# Altium footprint library SSOP-28_L10.2-W5.3-P0.65-LS7.8-BL.PcbLib: 1 footprints
Each footprint in its own frame and in the unit in brackets; x right, y up, seen from the top. Pads: shape width x height; smd on the part's side, far side on the other; paste and mask are expansions set on the pad; w line width, h text height; cw(c..) or ccw(c..) is an arc to the next point about the centre after c.
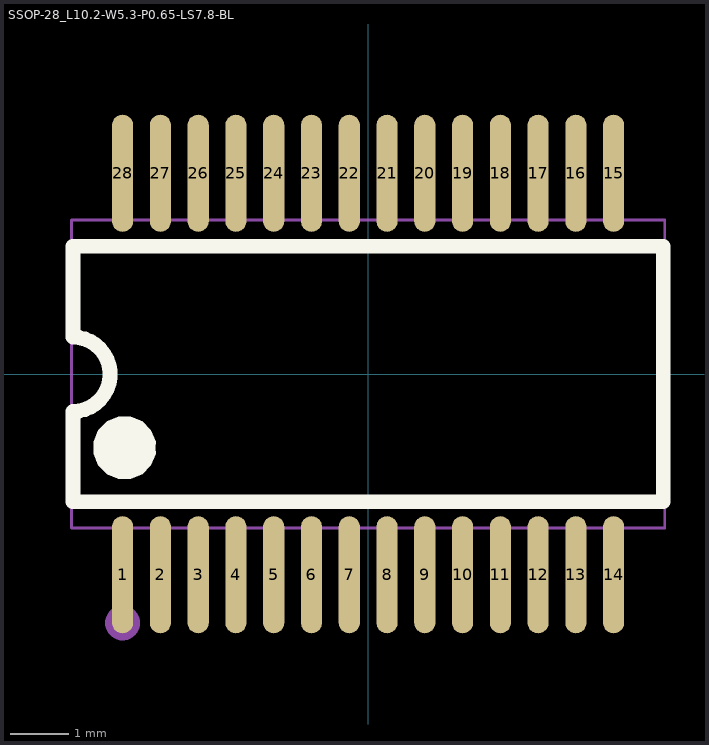
[diagram p0: the footprint, top view; thin cyan lines are the x and y axes]

## SSOP-28_L10.2-W5.3-P0.65-LS7.8-BL [mm]
pads (28):
  oval 0.364x2.015 smd: 1(-4.225,-3.455) 2(-3.575,-3.455) 3(-2.925,-3.455) 4(-2.275,-3.455) 5(-1.625,-3.455) 6(-0.975,-3.455) 7(-0.325,-3.455) 8(0.325,-3.455) 9(0.975,-3.455) 10(1.625,-3.455) 11(2.275,-3.455) 12(2.925,-3.455) 13(3.575,-3.455) 14(4.225,-3.455) 15(4.225,3.455) 16(3.575,3.455) 17(2.925,3.455) 18(2.275,3.455) 19(1.625,3.455) 20(0.975,3.455) 21(0.325,3.455) 22(-0.325,3.455) 23(-0.975,3.455) 24(-1.625,3.455) 25(-2.275,3.455) 26(-2.925,3.455) 27(-3.575,3.455) 28(-4.225,3.455)
Top Overlay:
  region: -4.722,-1.27 -4.723,-1.164 -4.643,-0.967 -4.493,-0.817 -4.297,-0.735 -4.085,-0.735 -3.889,-0.817 -3.739,-0.967 -3.659,-1.164 -3.66,-1.27 -3.659,-1.376 -3.739,-1.573 -3.889,-1.723 -4.085,-1.805 -4.297,-1.805 -4.493,-1.723 -4.643,-1.573 -4.723,-1.376 -4.722,-1.27
  lines w0.254: 5.08,-2.2 -5.08,-2.2 -5.08,-0.644 ccw(c-5.08,-0.004) -5.08,0.635 -5.08,2.2 5.08,2.2 5.08,-2.159
Mechanical 6:
  circle w0.3: c-4.225,-4.285 r0.15
Mechanical 15:
  drawing of 61 lines, arcs and shapes, not listed